# EAGLE library part IV-6 (library userlib)
Itron IV-6 CCCP.
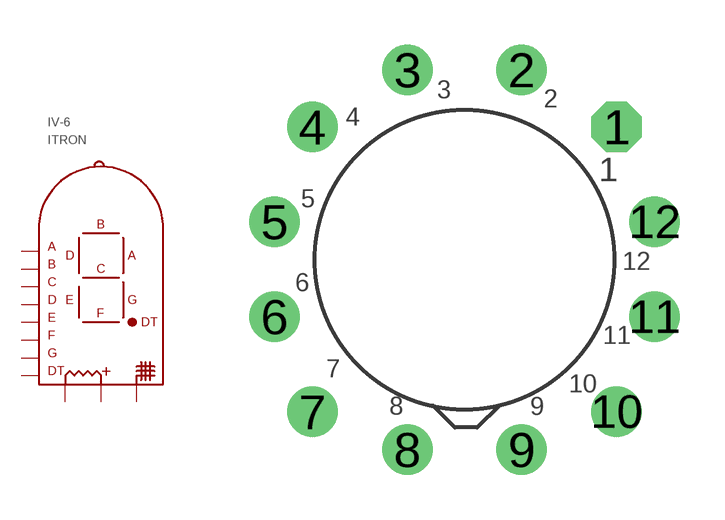
[diagram p20: symbol with the pads of IV6; footprint IV6]

Designator prefix ITRON

## IV-6  [IV6]
1  1  in
2  2  in
3  3  in
4  4  in
5  5  in
6  6  in
7  7  in
8  8  in
9  9  in
10  10  in
11  11  in

## Footprint IV6 (pad centres in mm)
drill 0.9 pad 1.676 octagon: 1 5.08,4.445
drill 0.9 pad 1.676: 2 1.905,6.35; 3 -1.905,6.35; 4 -5.08,4.445; 5 -6.35,1.27; 6 -6.35,-1.905; 7 -5.08,-5.08; 8 -1.905,-6.35; 9 1.905,-6.35; 10 5.08,-5.08; 11 6.35,-1.905; 12 6.35,1.27